# EAGLE library part CP2200 (library Radicon)
CP2200 ethernet controller
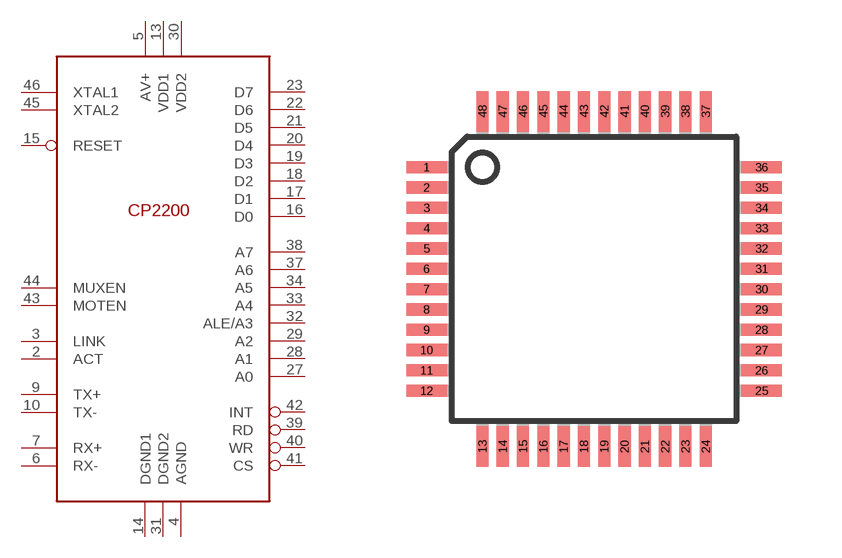
[diagram p3: symbol with the pads of TQFP48; footprint TQFP48]

Designator prefix DD

## CP2200  [TQFP48]
2  ACT
3  LINK
4  AGND
5  AV+
6  RX-
7  RX+
9  TX+
10  TX-
13  VDD1
14  DGND1
15  RESET
16  D0
17  D1
18  D2
19  D3
20  D4
21  D5
22  D6
23  D7
27  A0
28  A1
29  A2
30  VDD2
31  DGND2
32  ALE/A3
33  A4
34  A5
37  A6
38  A7
39  RD
40  WR
41  CS
42  INT
43  MOTEN
44  MUXEN
45  XTAL2
46  XTAL1

## Footprint TQFP48 (pad centres in mm)
Thin Plasic Quad Flat Package
smd 1.016 x 0.305: 1 -4.191,2.794; 2 -4.191,2.286; 3 -4.191,1.778; 4 -4.191,1.27; 5 -4.191,0.762; 6 -4.191,0.254; 7 -4.191,-0.254; 8 -4.191,-0.762; 9 -4.191,-1.27; 10 -4.191,-1.778; 11 -4.191,-2.286; 12 -4.191,-2.794; 25 4.191,-2.794; 26 4.191,-2.286; 27 4.191,-1.778; 28 4.191,-1.27; 29 4.191,-0.762; 30 4.191,-0.254; 31 4.191,0.254; 32 4.191,0.762; 33 4.191,1.27; 34 4.191,1.778; 35 4.191,2.286; 36 4.191,2.794
smd 0.305 x 1.016: 13 -2.794,-4.191; 14 -2.286,-4.191; 15 -1.778,-4.191; 16 -1.27,-4.191; 17 -0.762,-4.191; 18 -0.254,-4.191; 19 0.254,-4.191; 20 0.762,-4.191; 21 1.27,-4.191; 22 1.778,-4.191; 23 2.286,-4.191; 24 2.794,-4.191; 37 2.794,4.191; 38 2.286,4.191; 39 1.778,4.191; 40 1.27,4.191; 41 0.762,4.191; 42 0.254,4.191; 43 -0.254,4.191; 44 -0.762,4.191; 45 -1.27,4.191; 46 -1.778,4.191; 47 -2.286,4.191; 48 -2.794,4.191